# Altium schematic symbol library SCH_Transistors.SchLib: 3 symbols
Pins are listed as number, name and electrical type; pins without a type are passive.

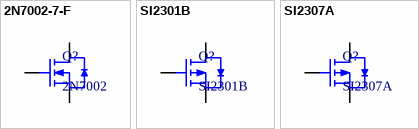
[diagram p0: symbols 2N7002-7-F to SI2307A]

## 2N7002-7-F
designator Q?, comment 2N7002
MOSFET N-CH 60V 115MA SOT23-3; Manufacturer: Diodes; Manufacturer Part Number: 2N7002-7-F; Nominal Vgs: 2.5V; Max Power Dissipation: 300mW; Rds On Max: 7.5R; Input Capacitance: 50pF; Number of Elements: 1; Drain to Source Breakdown Voltage: 70V; Gate to Source Voltage (Vgs): 20V; Turn-Off Delay Time: 11ns; Turn-On Delay Time: 7ns; Power Dissipation: 540mW; Element Configuration: Single; Polarity: N-CHANNEL; Rise Time: 3ns; Fall Time: 5.6ns; RoHS: Yes; Category: MOSFETs; Stock 1: 1719369; Pricing 1: 1=0,20000, 10=0,18600, 100=0,10140, 500=0,06236, 1000=0,04252 (USD); Mount: Surface Mount; Case/Package: SOT-23-3; Number of Pins: 3; Weight: 0.000282oz; Contact Plating: Tin,Matte; Min Operating Temperature: -55°C; Max Operating Temperature: 150°C; Drain to Source Voltage (Vdss): 60V; Continuous Drain Current (ID): 115mA; Packaging: Tape and Reel; Package Quantity: 1; Dual Supply Voltage: 60V; Number of Channels: 1; Drain to Source Resistance: 7.5R; On-State Resistance: 7.5R; Threshold Voltage: 2.5V; Termination: SMD/SMT; Voltage Rating (DC): 60V; Current Rating: 115mA; Series: -; Drain-source On Resistance-Max: 7.5R; Voltage: 60V; Length: 2.9mm; Width: 1.3mm; Height: 1mm; Radiation Hardening: No; Reach SVHC Compliant: Yes; Lead Free: Lead Free; RoHS Compliant: Yes; ComponentLink1URL: https://datasheet.ciiva.com/15219/getdatasheetpartid-110059-15219667.pdf?src-supplier=Verical; ComponentLink1Description: https://datasheet.ciiva.com/15219/getdatasheetpartid-110059-15219667.pdf?src-supplier=Verical; ComponentLink2URL: https://datasheet.ciiva.com/3304/ds11303-3304385.pdf?src-supplier=Avnet; ComponentLink2Description: https://datasheet.ciiva.com/3304/ds11303-3304385.pdf?src-supplier=Avnet; ComponentLink3URL: https://datasheet.ciiva.com/1188/ds11303-1188363.pdf?src-supplier=Element14; ComponentLink3Description: https://datasheet.ciiva.com/1188/ds11303-1188363.pdf?src-supplier=Element14; ComponentLink4URL: https://datasheet.ciiva.com/22712/1915452-22712375.pdf?src-supplier=Element14; ComponentLink4Description: https://datasheet.ciiva.com/22712/1915452-22712375.pdf?src-supplier=Element14; ComponentLink5URL: https://datasheet.ciiva.com/49020/70437206-49020102.pdf?src-supplier=Allied+Electronics; ComponentLink5Description: https://datasheet.ciiva.com/49020/70437206-49020102.pdf?src-supplier=Allied+Electronics; Supplier 1: LCSC; Supplier 2: Digi-Key; Supplier Part Number 1: C85049; Supplier Part Number 2: 2N7002-FDICT-ND
footprint SOT-23-3
pins: 1 G, 2 S, 3 D

## SI2301B
designator Q?
MOSFET P-CH 20V 2.2A SOT23-3; Manufacturer: UWM; Continuous Drain Current (ID): 2.5A; Drain to Source Voltage (Vdss): -20V; Polarity: P-CHANNEL; Rds On Max: 120mR; Gate to Source Voltage (Vgs): 8V; Case/Package: SOT-23-3; Category: MOSFETs; Manufacturer Part Number: SI2301B; Drain to Source Breakdown Voltage: -20V; Supplier 1: LCSC; RoHS: Yes; Stock 1: 234500; Pricing 1: 20=0,018700, 200=0,015000, 600=0,012900, 3000=0,011600, 9000=0,010600, 21000=0,010000 (USD); Supplier Part Number 1: C359103; ComponentLink1Description: Datasheet; ComponentLink1URL: https://datasheet.lcsc.com/lcsc/2203071530_UMW-Youtai-Semiconductor-Co---Ltd--SI2301B_C359103.pdf
footprint SOT-23-3
pins: 1 G, 2 S, 3 D

## SI2307A
designator Q?
MOSFET P-CH 30V 3A SOT23-3; Manufacturer: UMW(Youtai Semiconductor Co., Ltd.); Supplier 1: LCSC; Manufacturer Part Number: SI2307A; Stock 1: 18550; Pricing 1: 10=0,04360, 100=0,03530, 300=0,03120, 3000=0,02810, 6000=0,02560, 9000=0,02440 (USD); Supplier Part Number 1: C347490; ComponentLink1Description: Datasheet; ComponentLink1URL: https://datasheet.lcsc.com/lcsc/2209201030_UMW-Youtai-Semiconductor-Co---Ltd--SI2307A_C347490.pdf; Category: MOSFETs; Case/Package: SOT-23-3
footprint SOT-23-3
pins: 1 G, 2 S, 3 D